# Altium schematic symbol library STM32F103CBT6.SchLib: 1 symbol
Pins are listed as number, name and electrical type; pins without a type are passive.

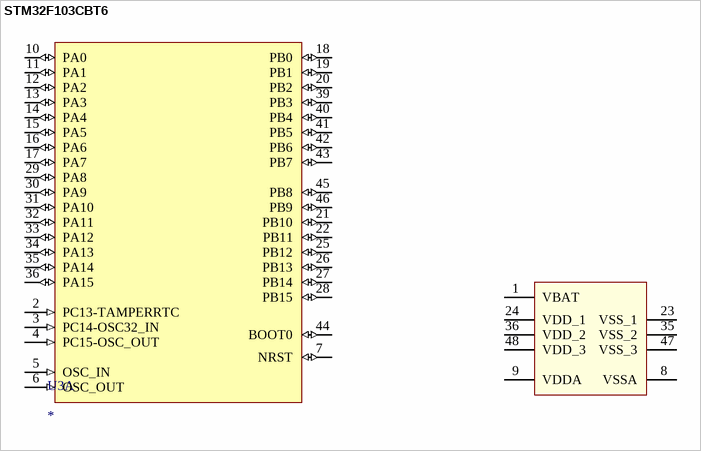
[diagram p0: symbol STM32F103CBT6]

## STM32F103CBT6
designator U3A
pins: 1 VBAT, 2 PC13-TAMPERRTC (in), 3 PC14-OSC32_IN (in), 4 PC15-OSC_OUT (in), 5 OSC_IN (in), 6 OSC_OUT (in), 7 NRST (io), 8 VSSA, 9 VDDA, 10 PA0 (io), 11 PA1 (io), 12 PA2 (io), 13 PA3 (io), 14 PA4 (io), 15 PA5 (io), 16 PA6 (io), 17 PA7 (io), 18 PB0 (io), 19 PB1 (io), 20 PB2 (io), 21 PB10 (io), 22 PB11 (io), 23 VSS_1, 24 VDD_1, 25 PB12 (io), 26 PB13 (io), 27 PB14 (io), 28 PB15 (io), 29 PA8 (io), 30 PA9 (io), 31 PA10 (io), 32 PA11 (io), 33 PA12 (io), 34 PA13 (io), 35 VSS_2, 35 PA14 (io), 36 VDD_2, 36 PA15 (io), 39 PB3 (io), 40 PB4 (io), 41 PB5 (io), 42 PB6 (io), 43 PB7 (io), 44 BOOT0 (io), 45 PB8 (io), 46 PB9 (io), 47 VSS_3, 48 VDD_3